# Altium footprint library alientek_sch_lib.PcbLib: 370 footprints (part 22 of 24)
Each footprint in its own frame and in the unit in brackets; x right, y up, seen from the top. Pads: shape width x height; smd on the part's side, far side on the other; paste and mask are expansions set on the pad; w line width, h text height; cw(c..) or ccw(c..) is an arc to the next point about the centre after c.
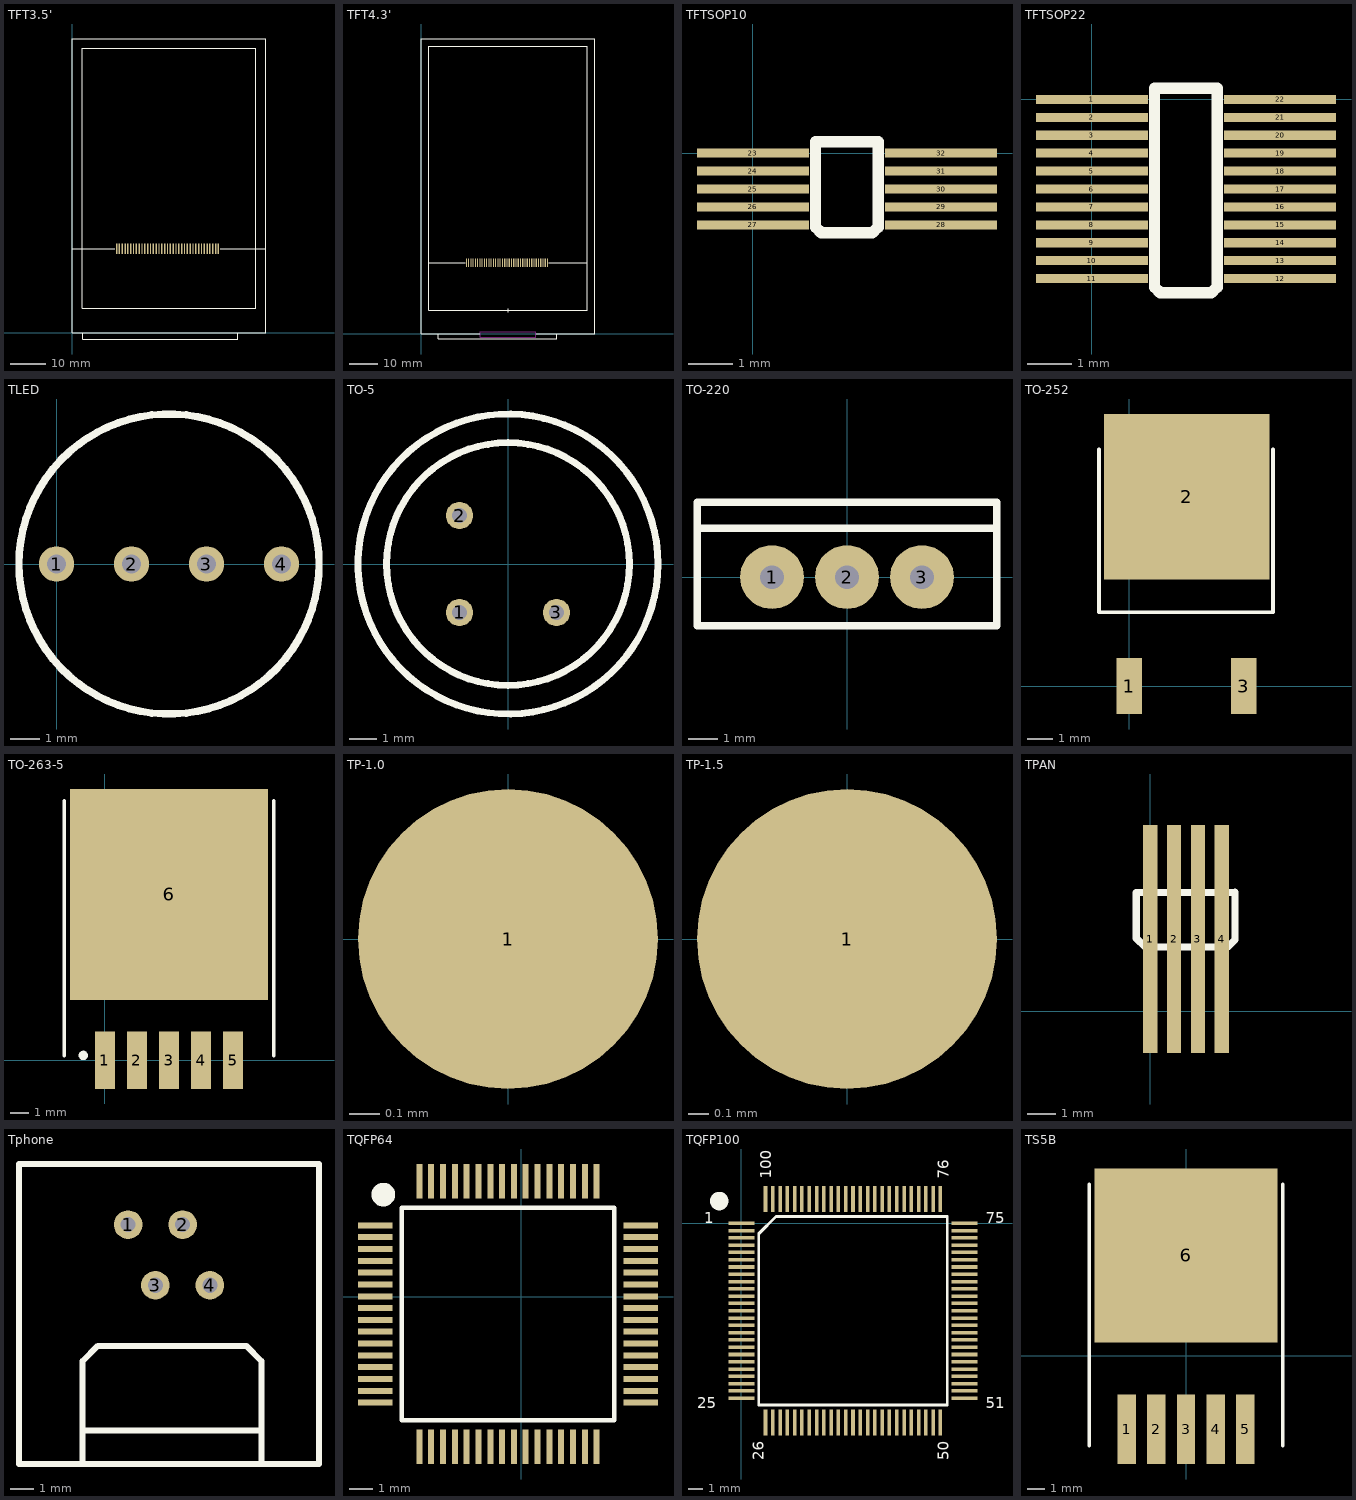
[diagram p21: the footprints below, top view; thin cyan lines are the x and y axes]

## TFT3.5' [mm] "TFT,LCD,480*320,3.5',TOUCH,16bit"
height 3.5
pads (37):
  rect 0.4x3 smd: 1(12.526,23.749) 2(13.326,23.749) 3(14.126,23.749) 4(14.926,23.749) 5(15.726,23.749) 6(16.526,23.749) 7(17.326,23.749) 8(18.126,23.749) 9(18.926,23.749) 10(19.726,23.749) 11(20.526,23.749) 12(21.326,23.749) 13(22.126,23.749) 14(22.926,23.749) 15(23.726,23.749) 16(24.526,23.749) 17(25.326,23.749) 18(26.126,23.749) 19(26.926,23.749) 20(27.726,23.749) 21(28.526,23.749) 22(29.326,23.749) 23(30.126,23.749) 24(30.926,23.749) 25(31.726,23.749) 26(32.526,23.749) 27(33.326,23.749) 28(34.126,23.749) 29(34.926,23.749) 30(35.726,23.749) 31(36.526,23.749) 32(37.326,23.749) 33(38.126,23.749) 34(38.926,23.749) 35(39.726,23.749) 36(40.526,23.749) 37(41.326,23.749)
Top Overlay:
  lines w0.203: 0,23.7 12.065,23.7 ; 3,0 3,-1.8 46.736,-1.8 46.736,0 ; 41.783,23.7 54.651,23.7 ; 0,0 0,83 54.7,83 54.7,0 0,0 ; 2.85,6.951 2.85,80.391 51.85,80.391 51.85,6.951 2.85,6.951

## TFT4.3' [mm] "TFT,LCD,480*800,4.3',TOUCH,16bit"
height 3.5
pads (37):
  rect 0.4x3 smd: 1(16.006,25.196) 2(16.806,25.196) 3(17.606,25.196) 4(18.406,25.196) 5(19.206,25.196) 6(20.006,25.196) 7(20.806,25.196) 8(21.606,25.196) 9(22.406,25.196) 10(23.206,25.196) 11(24.006,25.196) 12(24.806,25.196) 13(25.606,25.196) 14(26.406,25.196) 15(27.206,25.196) 16(28.006,25.196) 17(28.806,25.196) 18(29.606,25.196) 19(30.406,25.196) 20(31.206,25.196) 21(32.006,25.196) 22(32.806,25.196) 23(33.606,25.196) 24(34.406,25.196) 25(35.206,25.196) 26(36.006,25.196) 27(36.806,25.196) 28(37.606,25.196) 29(38.406,25.196) 30(39.206,25.196) 31(40.006,25.196) 32(40.806,25.196) 33(41.606,25.196) 34(42.406,25.196) 35(43.206,25.196) 36(44.006,25.196) 37(44.806,25.196)
Top Overlay:
  lines w0.203: 2.7,25.216 15.621,25.216 ; 6,0 6,-1.8 48,-1.8 48,0 ; 20.7,0 0,0 0,104.65 61.56,104.65 61.56,0 40.85,0 ; 30.78,7.75 30.78,9 ; 45.212,25.216 58.86,25.216 ; 2.7,8.41 2.7,102.01 58.85,102.01 58.86,102 58.86,8.41 2.7,8.41
Keep-Out Layer:
  lines w0.203: 20.9,-1.25 40.66,-1.25 40.66,0.75 20.9,0.75 20.9,-1.25

## TFTSOP10 [mm]
pads (10):
  rect 2.5x0.203 smd: 23(0,0) 24(0,-0.4) 25(0,-0.8) 26(0,-1.2) 27(0,-1.6) 28(4.2,-1.6) 29(4.2,-1.2) 30(4.2,-0.8) 31(4.2,-0.4) 32(4.2,0)
Top Overlay:
  lines w0.254: 1.397,-1.651 1.397,0.254 2.794,0.254 2.794,-1.651 2.667,-1.778 1.524,-1.778 1.397,-1.651

## TFTSOP22 [mm]
pads (22):
  rect 2.5x0.203 smd: 1(0,0) 2(0,-0.4) 3(0,-0.8) 4(0,-1.2) 5(0,-1.6) 6(0,-2) 7(0,-2.4) 8(0,-2.8) 9(0,-3.2) 10(0,-3.6) 11(0,-4) 12(4.2,-4) 13(4.2,-3.6) 14(4.2,-3.2) 15(4.2,-2.8) 16(4.2,-2.4) 17(4.2,-2) 18(4.2,-1.6) 19(4.2,-1.2) 20(4.2,-0.8) 21(4.2,-0.4) 22(4.2,0)
Top Overlay:
  lines w0.254: 1.397,-4.191 1.524,-4.318 2.667,-4.318 2.794,-4.191 2.794,0.254 1.397,0.254 1.397,-4.191

## TLED [mm] "LED"
height 10
pads (4):
  round 1.2 hole 0.635: 1(0,0) 2(2.54,0) 3(5.08,0) 4(7.62,0)
Top Overlay:
  circle w0.254: c3.81,0 r5.082

## TO-5 [mm]
height 15.1
pads (3):
  round 1 hole 0.55: 1(-1.778,-1.778) 2(-1.778,1.778) 3(1.778,-1.778)
Top Overlay:
  circle w0.254: c0,0 r4.45
  circle w0.254: c0,0 r5.5

## TO-220 [mil] "TO-220"
height 1181.1
pads (3):
  round 85 hole 31.5: 1(-100,0) 2(0,0) 3(100,0)
Top Overlay:
  lines w10: -200,65 100,65 200,65 ; -200,65 -200,-65 200,-65 200,65 ; -200,65 -200,100 200,100 200,65

## TO-252 [mm] "DPAK"
height 1.2
pads (3):
  rect 1x2.2 smd: 1(0,0) 3(4.5,0)
  rect 6.5x6.5 smd: 2(2.25,7.45)
Top Overlay:
  lines w0.152: -1.2,9.3 -1.2,2.9 5.65,2.9 5.65,9.3

## TO-263-5 [mil]
height 47.24
pads (6):
  rect 42x120 smd: 1(0,0) 2(66.93,0) 3(133.86,0) 4(200.79,0) 5(267.72,0)
  rect 414x440 smd: 6(133.86,346)
Top Overlay:
  circle w9.84: c-44.92,10 r4.92
  lines w7.87: -84.65,10 -84.65,541.5 ; 352.36,10 352.36,541.5

## TP-1.0 [mm] "1.0mm"
pads (1):
  round 1 smd: 1(0,0)

## TP-1.5 [mm] "1.5mm"
pads (1):
  round 1.5 smd: 1(0,0)

## TPAN [mm] "TOUCH SCREEN"
pads (4):
  rect 0.5x8 smd: 1(0,2.54) 2(0.838,2.54) 3(1.676,2.54) 4(2.515,2.54)
Top Overlay:
  lines w0.254: -0.483,2.565 -0.178,2.261 2.718,2.261 2.972,2.515 2.972,4.191 2.946,4.166 -0.483,4.166 -0.483,2.565

## Tphone [mm] "Tphone"
height 13
pads (4):
  round 1.2 hole 0.635: 1(5.842,-5.08) 2(8.128,-5.08) 3(6.985,-7.62) 4(9.271,-7.62)
Top Overlay:
  lines w0.254: 3.937,-15.113 3.937,-10.795 4.572,-10.16 10.795,-10.16 11.43,-10.795 11.43,-15.113 ; 3.937,-13.716 11.43,-13.716 ; 12.192,-15.113 12.7,-15.113 ; 13.843,-12.446 13.843,-2.54 2.921,-2.54 1.27,-2.54 1.27,-12.446 1.27,-15.113 13.843,-15.113 13.843,-11.811

## TQFP64 [mm]
height 1
pads (64):
  rect 1.45x0.254 smd: 1(-6.184,3.013) 2(-6.184,2.513) 3(-6.184,2.013) 4(-6.184,1.513) 5(-6.184,1.013) 6(-6.184,0.513) 7(-6.184,0.013) 8(-6.184,-0.487) 9(-6.184,-0.987) 10(-6.184,-1.487) 11(-6.184,-1.987) 12(-6.184,-2.487) 13(-6.184,-2.987) 14(-6.184,-3.487) 15(-6.184,-3.987) 16(-6.184,-4.487) 33(5.066,-4.487) 34(5.066,-3.987) 35(5.066,-3.487) 36(5.066,-2.987) 37(5.066,-2.487) 38(5.066,-1.987) 39(5.066,-1.487) 40(5.066,-0.987) 41(5.066,-0.487) 42(5.066,0.013) 43(5.066,0.513) 44(5.066,1.013) 45(5.066,1.513) 46(5.066,2.013) 47(5.066,2.513) 48(5.066,3.013)
  rect 0.254x1.45 smd: 17(-4.309,-6.362) 18(-3.809,-6.362) 19(-3.309,-6.362) 20(-2.809,-6.362) 21(-2.309,-6.362) 22(-1.809,-6.362) 23(-1.309,-6.362) 24(-0.809,-6.362) 25(-0.309,-6.362) 26(0.191,-6.362) 27(0.691,-6.362) 28(1.191,-6.362) 29(1.691,-6.362) 30(2.191,-6.362) 31(2.691,-6.362) 32(3.191,-6.362) 49(3.191,4.888) 50(2.691,4.888) 51(2.191,4.888) 52(1.691,4.888) 53(1.191,4.888) 54(0.691,4.888) 55(0.191,4.888) 56(-0.309,4.888) 57(-0.809,4.888) 58(-1.309,4.888) 59(-1.809,4.888) 60(-2.309,4.888) 61(-2.809,4.888) 62(-3.309,4.888) 63(-3.809,4.888) 64(-4.309,4.888)
Top Overlay:
  circle w0.5: c-5.838,4.318 r0.25
  lines w0.2: -5.059,-5.237 3.941,-5.237 3.941,3.763 -5.059,3.763 -5.059,-5.237

## TQFP100 [mil]
pads (100):
  rect 70x9.5 smd: 1(0,0) 2(0,-19.68) 3(0,-39.37) 4(0,-59.05) 5(0,-78.74) 6(0,-98.42) 7(0,-118.11) 8(0,-137.79) 9(0,-157.48) 10(0,-177.16) 11(0,-196.85) 12(0,-216.53) 13(0,-236.22) 14(0,-255.91) 15(0,-275.59) 16(0,-295.27) 17(0,-314.96) 18(0,-334.64) 19(0,-354.33) 20(0,-374.01) 21(0,-393.7) 22(0,-413.38) 23(0,-433.07) 24(0,-452.75) 25(0,-472.44) 51(602.36,-472.44) 52(602.36,-452.75) 53(602.36,-433.07) 54(602.36,-413.38) 55(602.36,-393.7) 56(602.36,-374.01) 57(602.36,-354.33) 58(602.36,-334.64) 59(602.36,-314.96) 60(602.36,-295.27) 61(602.36,-275.59) 62(602.36,-255.91) 63(602.36,-236.22) 64(602.36,-216.53) 65(602.36,-196.85) 66(602.36,-177.16) 67(602.36,-157.48) 68(602.36,-137.79) 69(602.36,-118.11) 70(602.36,-98.42) 71(602.36,-78.74) 72(602.36,-59.05) 73(602.36,-39.37) 74(602.36,-19.68) 75(602.36,0)
  rect 9.5x70 smd: 26(64.96,-537.4) 27(84.65,-537.4) 28(104.33,-537.4) 29(124.02,-537.4) 30(143.7,-537.4) 31(163.39,-537.4) 32(183.07,-537.4) 33(202.76,-537.4) 34(222.44,-537.4) 35(242.13,-537.4) 36(261.81,-537.4) 37(281.5,-537.4) 38(301.18,-537.4) 39(320.87,-537.4) 40(340.55,-537.4) 41(360.24,-537.4) 42(379.92,-537.4) 43(399.61,-537.4) 44(419.29,-537.4) 45(438.98,-537.4) 46(458.66,-537.4) 47(478.35,-537.4) 48(498.03,-537.4) 49(517.72,-537.4) 50(537.4,-537.4) 76(537.4,64.96) 77(517.72,64.96) 78(498.03,64.96) 79(478.35,64.96) 80(458.66,64.96) 81(438.98,64.96) 82(419.29,64.96) 83(399.61,64.96) 84(379.92,64.96) 85(360.24,64.96) 86(340.55,64.96) 87(320.87,64.96) 88(301.18,64.96) 89(281.5,64.96) 90(261.81,64.96) 91(242.13,64.96) 92(222.44,64.96) 93(202.76,64.96) 94(183.07,64.96) 95(163.39,64.96) 96(143.7,64.96) 97(124.02,64.96) 98(104.33,64.96) 99(84.65,64.96) 100(64.96,64.96)
Top Overlay:
  circle w25: c-60,60 r12.5
  lines w7.87: 46.65,-490.75 555.71,-490.75 555.71,18.31 93.31,18.31 46.65,-28.35 46.65,-490.75
  text "100" at 80,120 h30
  text "76" at 560,120 h30
  text "75" at 660,0 h30
  text "51" at 660,-500 h30
  text "50" at 560,-640 h30
  text "26" at 60,-640 h30
  text "25" at -120,-500 h30
  text "1" at -100,0 h30

## TS5B [mm] "D2-PAK; 5 Leads; Body 14.4 (inc. leads) x 10.4 mm (LxW max)"
height 4.65
pads (6):
  rect 1.05x4 smd: 1(-3.4,-4.225) 2(-1.7,-4.225) 3(0,-4.225) 4(1.7,-4.225) 5(3.4,-4.225)
  rect 10.5x10 smd: 6(0,5.74)
Top Overlay:
  circle w0.25: c-3.4,-5.725 r0.125
  lines w0.2: -5.55,-5.175 -5.55,9.825 ; 5.55,-5.175 5.55,9.825